# Altium footprint library FT232RL.PcbLib: 1 footprints
Each footprint in its own frame and in the unit in brackets; x right, y up, seen from the top. Pads: shape width x height; smd on the part's side, far side on the other; paste and mask are expansions set on the pad; w line width, h text height; cw(c..) or ccw(c..) is an arc to the next point about the centre after c.
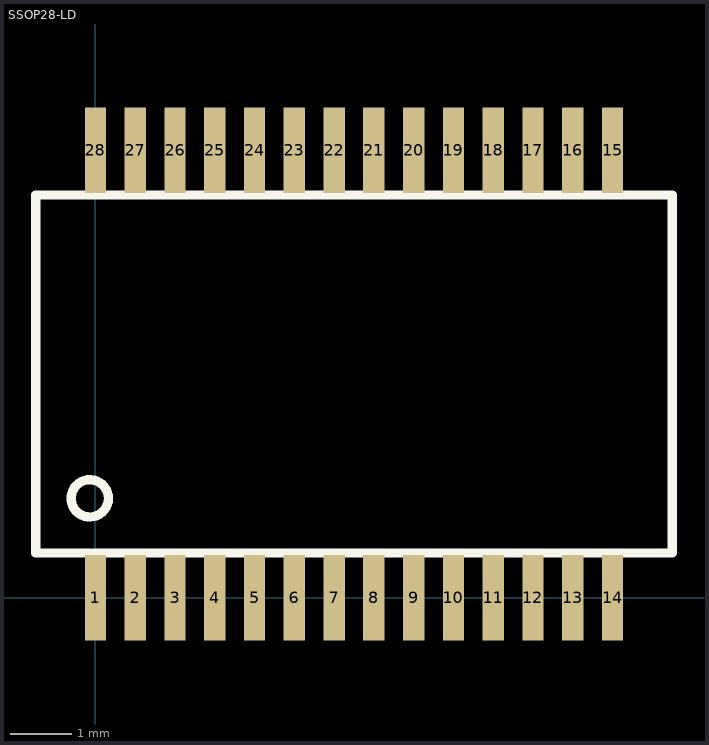
[diagram p0: the footprint, top view; thin cyan lines are the x and y axes]

## SSOP28-LD [mil]
pads (28):
  rect 13.7x55 smd paste-1000 mask-1000: 1(0,0) 2(25.59,0) 3(51.18,0) 4(76.77,0) 5(102.36,0) 6(127.95,0) 7(153.54,0) 8(179.13,0) 9(204.72,0) 10(230.31,0) 11(255.91,0) 12(281.5,0) 13(307.09,0) 14(332.68,0) 15(332.68,287.87) 16(307.09,287.87) 17(281.5,287.87) 18(255.91,287.87) 19(230.31,287.87) 20(204.72,287.87) 21(179.13,287.87) 22(153.54,287.87) 23(127.95,287.87) 24(102.36,287.87) 25(76.77,287.87) 26(51.18,287.87) 27(25.59,287.87) 28(0,287.87)
Top Overlay:
  circle w6: c-3.66,63.94 r12
  lines w6: -38.39,28.78 -38.39,259.09 371.06,259.09 371.06,28.78 -38.39,28.78
Top Paste:
  region: 325.83,-27.5 339.53,-27.5 339.53,27.5 325.83,27.5
  region: 300.24,-27.5 313.94,-27.5 313.94,27.5 300.24,27.5
  region: 274.65,-27.5 288.35,-27.5 288.35,27.5 274.65,27.5
  region: 249.06,-27.5 262.76,-27.5 262.76,27.5 249.06,27.5
  region: 223.46,-27.5 237.17,-27.5 237.17,27.5 223.46,27.5
  region: 197.87,-27.5 211.57,-27.5 211.57,27.5 197.87,27.5
  region: 172.28,-27.5 185.98,-27.5 185.98,27.5 172.28,27.5
  region: 146.69,-27.5 160.39,-27.5 160.39,27.5 146.69,27.5
  region: 121.1,-27.5 134.8,-27.5 134.8,27.5 121.1,27.5
  region: 95.51,-27.5 109.21,-27.5 109.21,27.5 95.51,27.5
  region: 69.92,-27.5 83.62,-27.5 83.62,27.5 69.92,27.5
  region: 44.33,-27.5 58.03,-27.5 58.03,27.5 44.33,27.5
  region: 18.74,-27.5 32.44,-27.5 32.44,27.5 18.74,27.5
  region: -6.85,-27.5 6.85,-27.5 6.85,27.5 -6.85,27.5
  region: 325.83,260.37 339.53,260.37 339.53,315.37 325.83,315.37
  region: 300.24,260.37 313.94,260.37 313.94,315.37 300.24,315.37
  region: 274.65,260.37 288.35,260.37 288.35,315.37 274.65,315.37
  region: 249.06,260.37 262.76,260.37 262.76,315.37 249.06,315.37
  region: 223.46,260.37 237.17,260.37 237.17,315.37 223.46,315.37
  region: 172.28,260.37 185.98,260.37 185.98,315.37 172.28,315.37
  region: 197.87,260.37 211.57,260.37 211.57,315.37 197.87,315.37
  region: 146.69,260.37 160.39,260.37 160.39,315.37 146.69,315.37
  region: 121.1,260.37 134.8,260.37 134.8,315.37 121.1,315.37
  region: 95.51,260.37 109.21,260.37 109.21,315.37 95.51,315.37
  region: 69.92,260.37 83.62,260.37 83.62,315.37 69.92,315.37
  region: 44.33,260.37 58.03,260.37 58.03,315.37 44.33,315.37
  region: 18.74,260.37 32.44,260.37 32.44,315.37 18.74,315.37
  region: -6.85,260.37 6.85,260.37 6.85,315.37 -6.85,315.37
Top Solder:
  region: 321.89,-31.44 343.46,-31.44 343.46,31.44 321.89,31.44
  region: 296.3,-31.44 317.87,-31.44 317.87,31.44 296.3,31.44
  region: 270.71,-31.44 292.28,-31.44 292.28,31.44 270.71,31.44
  region: 245.12,-31.44 266.69,-31.44 266.69,31.44 245.12,31.44
  region: 219.53,-31.44 241.1,-31.44 241.1,31.44 219.53,31.44
  region: 193.94,-31.44 215.51,-31.44 215.51,31.44 193.94,31.44
  region: 168.35,-31.44 189.92,-31.44 189.92,31.44 168.35,31.44
  region: 142.76,-31.44 164.33,-31.44 164.33,31.44 142.76,31.44
  region: 117.17,-31.44 138.74,-31.44 138.74,31.44 117.17,31.44
  region: 91.57,-31.44 113.15,-31.44 113.15,31.44 91.57,31.44
  region: 65.98,-31.44 87.56,-31.44 87.56,31.44 65.98,31.44
  region: 40.39,-31.44 61.97,-31.44 61.97,31.44 40.39,31.44
  region: 14.8,-31.44 36.38,-31.44 36.38,31.44 14.8,31.44
  region: -10.79,-31.44 10.79,-31.44 10.79,31.44 -10.79,31.44
  region: 321.89,256.44 343.46,256.44 343.46,319.31 321.89,319.31
  region: 296.3,256.44 317.87,256.44 317.87,319.31 296.3,319.31
  region: 270.71,256.44 292.28,256.44 292.28,319.31 270.71,319.31
  region: 245.12,256.44 266.69,256.44 266.69,319.31 245.12,319.31
  region: 219.53,256.44 241.1,256.44 241.1,319.31 219.53,319.31
  region: 168.35,256.44 189.92,256.44 189.92,319.31 168.35,319.31
  region: 193.94,256.44 215.51,256.44 215.51,319.31 193.94,319.31
  region: 142.76,256.44 164.33,256.44 164.33,319.31 142.76,319.31
  region: 117.17,256.44 138.74,256.44 138.74,319.31 117.17,319.31
  region: 91.57,256.44 113.15,256.44 113.15,319.31 91.57,319.31
  region: 65.98,256.44 87.56,256.44 87.56,319.31 65.98,319.31
  region: 40.39,256.44 61.97,256.44 61.97,319.31 40.39,319.31
  region: 14.8,256.44 36.38,256.44 36.38,319.31 14.8,319.31
  region: -10.79,256.44 10.79,256.44 10.79,319.31 -10.79,319.31
3D body: height 76.9, standoff -1.84, extent -34.44,-10.08 367.13,297.49